# EAGLE library part 74LVC1G11DW-7 (library diodes-inc-e14)
SINGLE 3 INPUT POSITIVE AND GATE
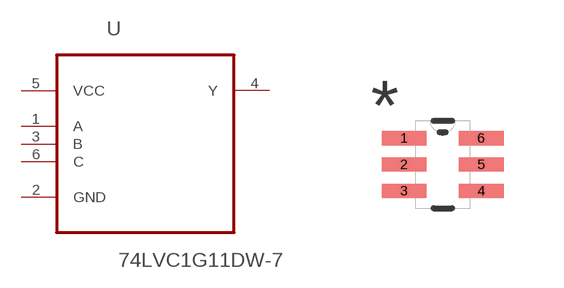
[diagram p2: symbol with the pads of SOT65P210X110-6N; footprint SOT65P210X110-6N]

Designator prefix U

## 74LVC1G11DW-7 (MPN: 74LVC1G11DW-7; OC_FARNELL: 1893824; OC_NEWARK: 47T3913; PACKAGE: SOT-6; SUPPLIER: DIODES INC.)  [SOT65P210X110-6N]
1  A  in
2  GND  pas
3  B  in
4  Y  out
5  VCC  pwr
6  C  in

## Footprint SOT65P210X110-6N (pad centres in mm)
smd 1.118 x 0.356: 1 -0.965,0.66; 2 -0.965,0; 3 -0.965,-0.66; 4 0.965,-0.66; 5 0.965,0; 6 0.965,0.66